# EAGLE library part CH32V003F4P6 (library CH32V003F4P6)
CH32V003F4P6
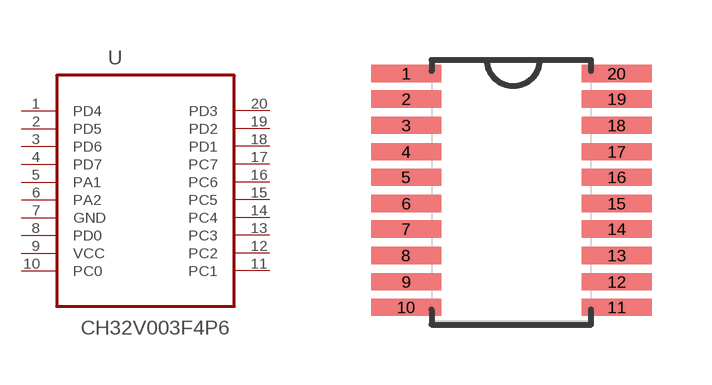
[diagram p0: symbol with the pads of SSOP-20N; footprint SSOP-20N]

Designator prefix U

## CH32V003F4P6  [SSOP-20N]
1  PD4
2  PD5  in
3  PD6  in
4  PD7  in
5  PA1  in
6  PA2  in
7  GND  pas
8  PD0  in
9  VCC  pwr
10  PC0  in
11  PC1  in
12  PC2  in
13  PC3  out
14  PC4  out
15  PC5  out
16  PC6  out
17  PC7  out
18  PD1  out
19  PD2  out
20  PD3  out

## Footprint SSOP-20N (pad centres in mm)
CH32V003F4P6
smd 1.751 x 0.432: 1 -2.632,2.921; 2 -2.632,2.286; 3 -2.632,1.626; 4 -2.632,0.965; 5 -2.632,0.33; 6 -2.632,-0.33; 7 -2.632,-0.965; 8 -2.632,-1.626; 9 -2.632,-2.286; 10 -2.632,-2.921; 11 2.632,-2.921; 12 2.632,-2.286; 13 2.632,-1.626; 14 2.632,-0.965; 15 2.632,-0.33; 16 2.632,0.33; 17 2.632,0.965; 18 2.632,1.626; 19 2.632,2.286; 20 2.632,2.921